# EAGLE library part LPC2132 (library GadgetFactory_v1)
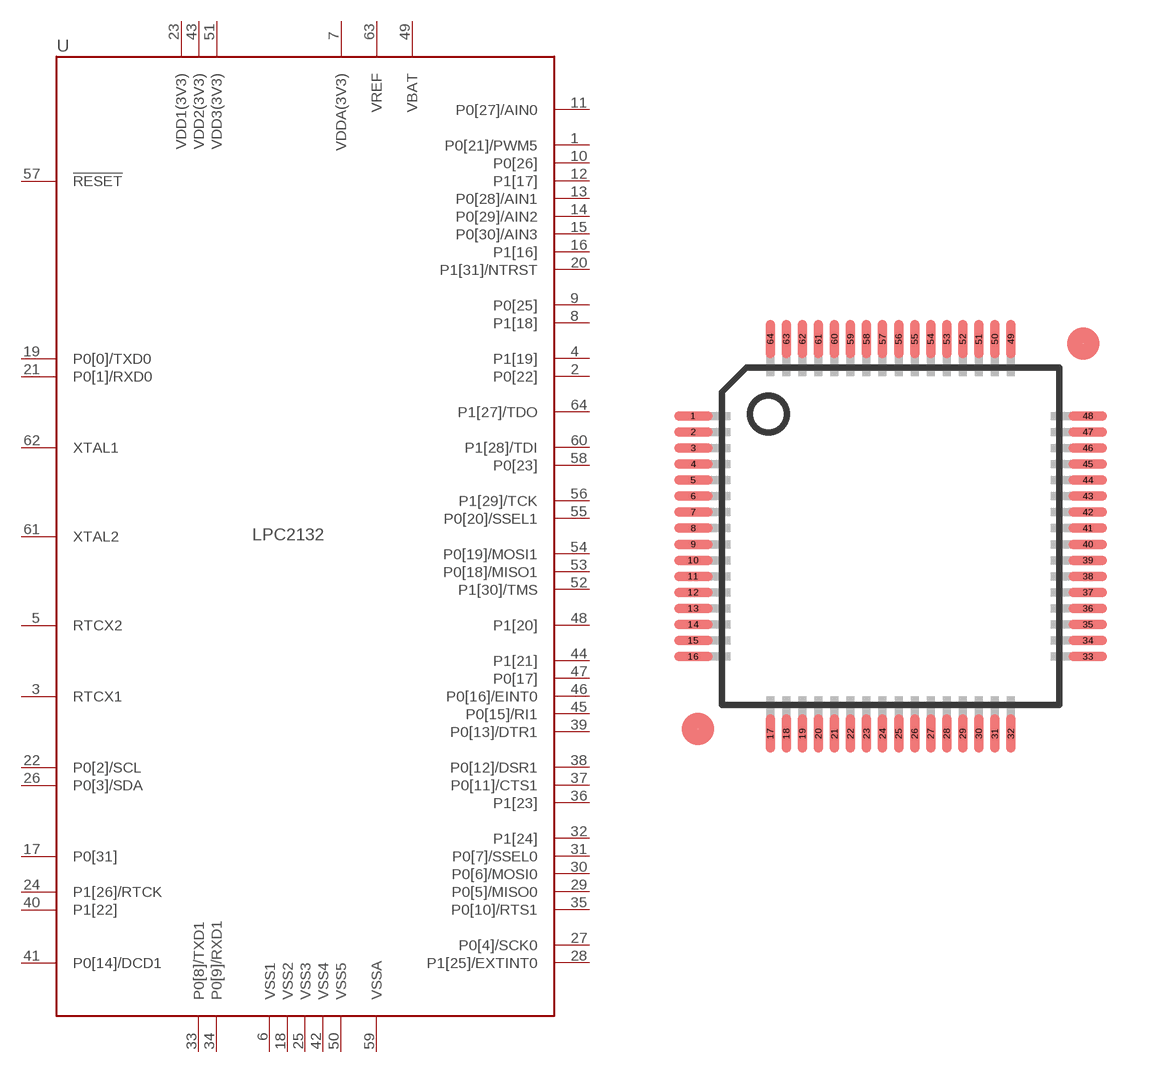
[diagram p65: symbol with the pads of LQFP64; footprint LQFP64]

Designator prefix U

## LPC2132FBD64  [LQFP64]
1  P0[21]/PWM5
2  P0[22]
3  RTCX1
4  P1[19]
5  RTCX2
6  VSS1
7  VDDA(3V3)  pas
8  P1[18]
9  P0[25]
10  P0[26]
11  P0[27]/AIN0
12  P1[17]
13  P0[28]/AIN1
14  P0[29]/AIN2
15  P0[30]/AIN3
16  P1[16]
17  P0[31]
18  VSS2
19  P0[0]/TXD0
20  P1[31]/NTRST
21  P0[1]/RXD0
22  P0[2]/SCL
23  VDD1(3V3)  pas
24  P1[26]/RTCK
25  VSS3
26  P0[3]/SDA
27  P0[4]/SCK0
28  P1[25]/EXTINT0
29  P0[5]/MISO0
30  P0[6]/MOSI0
31  P0[7]/SSEL0
32  P1[24]
33  P0[8]/TXD1
34  P0[9]/RXD1
35  P0[10]/RTS1
36  P1[23]
37  P0[11]/CTS1
38  P0[12]/DSR1
39  P0[13]/DTR1
40  P1[22]
41  P0[14]/DCD1
42  VSS4
43  VDD2(3V3)  pas
44  P1[21]
45  P0[15]/RI1
46  P0[16]/EINT0
47  P0[17]
48  P1[20]
49  VBAT  pas
50  VSS5
51  VDD3(3V3)  pas
52  P1[30]/TMS
53  P0[18]/MISO1
54  P0[19]/MOSI1
55  P0[20]/SSEL1
56  P1[29]/TCK
57  !RESET
58  P0[23]
59  VSSA
60  P1[28]/TDI
61  XTAL2
62  XTAL1
63  VREF  pas
64  P1[27]/TDO

## Footprint LQFP64 (pad centres in mm)
64-Lead Low Profile Quad Flat Package [LQFP] (ST-64-2) COMPLIANT TO JEDEC STANDARDS MS-026-BCD Source: http://www.analog.com/UploadedFiles/Data_Sheets/288945048AD7C7019_20_1_2_4_5_6_7_0.pdf
smd 1.2 x 0.3: 1 -6.15,3.75; 2 -6.15,3.25; 3 -6.15,2.75; 4 -6.15,2.25; 5 -6.15,1.75; 6 -6.15,1.25; 7 -6.15,0.75; 8 -6.15,0.25; 9 -6.15,-0.25; 10 -6.15,-0.75; 11 -6.15,-1.25; 12 -6.15,-1.75; 13 -6.15,-2.25; 14 -6.15,-2.75; 15 -6.15,-3.25; 16 -6.15,-3.75; 33 6.15,-3.75; 34 6.15,-3.25; 35 6.15,-2.75; 36 6.15,-2.25; 37 6.15,-1.75; 38 6.15,-1.25; 39 6.15,-0.75; 40 6.15,-0.25; 41 6.15,0.25; 42 6.15,0.75; 43 6.15,1.25; 44 6.15,1.75; 45 6.15,2.25; 46 6.15,2.75; 47 6.15,3.25; 48 6.15,3.75
smd 0.3 x 1.2: 17 -3.75,-6.15; 18 -3.25,-6.15; 19 -2.75,-6.15; 20 -2.25,-6.15; 21 -1.75,-6.15; 22 -1.25,-6.15; 23 -0.75,-6.15; 24 -0.25,-6.15; 25 0.25,-6.15; 26 0.75,-6.15; 27 1.25,-6.15; 28 1.75,-6.15; 29 2.25,-6.15; 30 2.75,-6.15; 31 3.25,-6.15; 32 3.75,-6.15; 49 3.75,6.15; 50 3.25,6.15; 51 2.75,6.15; 52 2.25,6.15; 53 1.75,6.15; 54 1.25,6.15; 55 0.75,6.15; 56 0.25,6.15; 57 -0.25,6.15; 58 -0.75,6.15; 59 -1.25,6.15; 60 -1.75,6.15; 61 -2.25,6.15; 62 -2.75,6.15; 63 -3.25,6.15; 64 -3.75,6.15